# Altium schematic symbol library EEUFR1A102LB.SchLib: 1 symbol
Pins are listed as number, name and electrical type; pins without a type are passive.

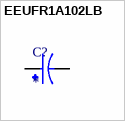
[diagram p0: symbol EEUFR1A102LB]

## EEUFR1A102LB
designator C?
1000ÂµF 10V Aluminum Electrolytic Capacitors Radial, Can 8000 Hrs @ 105Â°C; MP: EEUFR1A102LB; MF: Panasonic; SnapEDA_Link: https://www.snapeda.com/parts/EEUFR1A102LB/Panasonic/view-part/?ref=snap; Availability: In Stock; Price: None; Value: *; Check_prices: https://www.snapeda.com/parts/EEUFR1A102LB/Panasonic/view-part/?ref=eda; Package: RADIAL-2 Panasonic
footprint CAPPRD500W60D800H1500
pins: N, P